# Altium footprint library ICs.PcbLib: 34 footprints (part 3 of 3)
Each footprint in its own frame and in the unit in brackets; x right, y up, seen from the top. Pads: shape width x height; smd on the part's side, far side on the other; paste and mask are expansions set on the pad; w line width, h text height; cw(c..) or ccw(c..) is an arc to the next point about the centre after c.
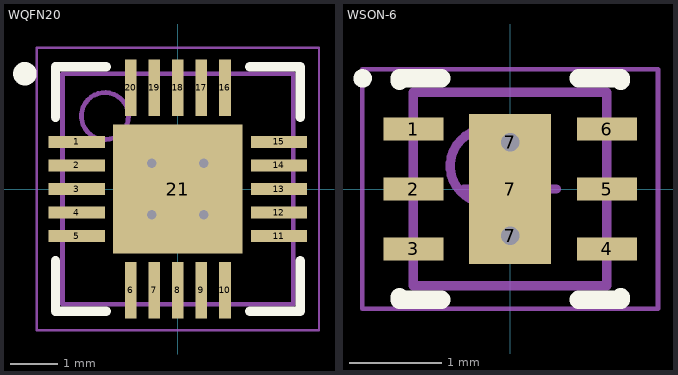
[diagram p2: the footprints below, top view; thin cyan lines are the x and y axes]

## WQFN20 [mm]
height 0.75
pads (21):
  rect 1.2x0.25 smd: 1(-2.15,1) 2(-2.15,0.5) 3(-2.15,0) 4(-2.15,-0.5) 5(-2.15,-1) 11(2.15,-1) 12(2.15,-0.5) 13(2.15,0) 14(2.15,0.5) 15(2.15,1)
  rect 0.25x1.2 smd: 6(-1,-2.15) 7(-0.5,-2.15) 8(0,-2.15) 9(0.5,-2.15) 10(1,-2.15) 16(1,2.15) 17(0.5,2.15) 18(0,2.15) 19(-0.5,2.15) 20(-1,2.15)
  rect 2.75x2.75 smd: 21(0,0)
via 0.55,-0.55 diameter 0.5 hole 0.2
via -0.55,-0.55 diameter 0.5 hole 0.2
via 0.55,0.55 diameter 0.5 hole 0.2
via -0.55,0.55 diameter 0.5 hole 0.2
Top Overlay:
  circle w0.25: c-3.25,2.45 r0.125
  lines w0.2: -2.6,-1.525 -2.6,-2.6 -1.525,-2.6 ; -2.6,1.525 -2.6,2.6 -1.525,2.6 ; 1.525,-2.6 2.6,-2.6 2.6,-1.525 ; 1.525,2.6 2.6,2.6 2.6,1.525
Mechanical 13:
  circle w0.1: c-1.55,1.55 r0.5
  lines w0.1: -2.45,-2.45 2.45,-2.45 2.45,2.45 -2.45,2.45 -2.45,-2.45
Mechanical 15:
  lines w0.05: -3,-3 3,-3 3,3 -3,3 -3,-3
  lines w0.1: -0.5,0 0.5,0 ; 0,-0.5 0,0.5
3D body "WQFN20.step": height 0.75, standoff 0, extent -2.46,-2.46 2.46,2.46

## WSON-6 [mm]
pads (9):
  rect 0.65x0.25 smd: 1(-1.05,0.65) 2(-1.05,0) 3(-1.05,-0.65) 4(1.05,-0.65) 5(1.05,0) 6(1.05,0.65)
  round 0.4 hole 0.2: 7(0,-0.508) 7(0,0.508)
  rect 0.89x1.63 smd: 7(0,0)
Top Overlay:
  circle w0.1: c-1.6,1.2 r0.05
  lines w0.2: -1.2,-1.175 -1.2,-1.2 -0.745,-1.2 ; -1.2,1.175 -1.2,1.2 -0.745,1.2 ; 0.745,-1.2 1.2,-1.2 1.2,-1.175 ; 0.745,1.2 1.2,1.2 1.2,1.175
Mechanical 13:
  circle w0.1: c-0.25,0.25 r0.4
  lines w0.1: -1.05,-1.05 -1.05,1.05 1.05,1.05 1.05,-1.05 -1.05,-1.05
Mechanical 15:
  lines w0.05: -1.605,-1.3 -1.605,1.3 1.605,1.3 1.605,-1.3 -1.605,-1.3
  lines w0.1: -0.5,0 0.5,0 ; 0,-0.5 0,0.5
3D body "WSON(6).step": height 0.8, standoff 0, extent -1.05,-1.05 1.05,1.05